# Altium schematic symbol library C151251.SchLib: 1 symbol
Pins are listed as number, name and electrical type; pins without a type are passive.

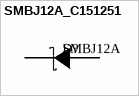
[diagram p0: symbol SMBJ12A_C151251]

## SMBJ12A_C151251
designator D?, comment SMBJ12A
21.5VC Clamp 28A@10/1000us Ipp TVS DIODE DO-214AA
footprint SMB_L4.6-W3.6-LS5.3-RD (21.5VC Clamp 28A@10/1000us Ipp TVS DIODE DO-214AA)
pins: 1 K, 2 A